# Altium integrated library ST Video VCR Circuit.IntLib: 1 symbol
Pins are listed as number, name and electrical type; pins without a type are passive.

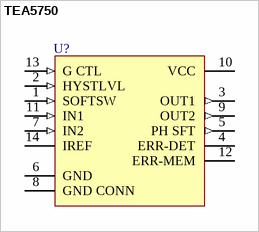
[diagram p0: symbol TEA5750]

## TEA5750
designator U?
Active Sideband Optimization; Note: Pin number 8 is to be connected to GND.; Published: 24-Aug-2001; LatestRevisionDate: 13-Apr-2006; LatestRevisionNote: IPC-7351 Footprint Added.; DatasheetVersion: Feb-1993; PackageVersion: Sep-1998; PackageReference: SO14; Publisher: Altium Limited; PackageDescription: 14-Pin Small Outline Integrated Circuit 1.27 mm Pitch; Code_IPC: SOIC127P600-14; ComponentLink1Description: Manufacturer Link; ComponentLink1URL: http://www.st.com/
footprint SO14_N (SOIC, 14-Leads, Body 8.7x3.9mm, Pitch 1.27mm, IPC Medium Density)
footprint SO14_L (SOIC, 14-Leads, Body 8.7x3.9mm, Pitch 1.27mm, IPC High Density)
footprint SO14_M (SOIC, 14-Leads, Body 8.7x3.9mm, Pitch 1.27mm, IPC Low Density)
3D model SO14 (14-Pin Small Outline Integrated Circuit 1.27 mm Pitch)
pins: 1 SOFTSW (in), 2 HYSTLVL (in), 3 OUT1 (out), 4 ERR-DET, 5 PH SFT (out), 6 GND (power), 7 IN2 (in), 8 GND CONN, 9 OUT2 (out), 10 VCC (power), 11 IN1 (in), 12 ERR-MEM, 13 G CTL (in), 14 IREF